# Altium schematic symbol library BQ24600RVAR.SchLib: 1 symbol
Pins are listed as number, name and electrical type; pins without a type are passive.

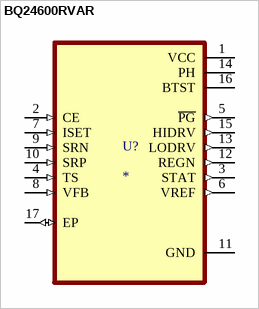
[diagram p0: symbol BQ24600RVAR]

## BQ24600RVAR
designator U?
Standalone 1-6 cell Buck battery charge controller; MF: Texas Instruments; MP: BQ24600RVAR; SnapEDA_Link: https://www.snapeda.com/parts/BQ24600RVAR/Texas+Instruments/view-part/?ref=snap; Package: VQFN-16 Texas Instruments; Value: *; Check_prices: https://www.snapeda.com/parts/BQ24600RVAR/Texas+Instruments/view-part/?ref=eda
footprint QFN50P350X350X100-17N
pins: 1 VCC (power), 2 CE (in), 3 STAT (out), 4 TS (in), 5 ~{PG} (out), 6 VREF (out), 7 ISET (in), 8 VFB (in), 9 SRN (in), 10 SRP (in), 11 GND (power), 12 REGN (out), 13 LODRV (out), 14 PH (power), 15 HIDRV (out), 16 BTST (power), 17 EP (io)